# Altium schematic symbol library MCP2200-SOIC20.SchLib: 1 symbol
Pins are listed as number, name and electrical type; pins without a type are passive.

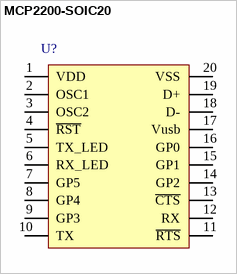
[diagram p0: symbol MCP2200-SOIC20]

## MCP2200-SOIC20
designator U?  (value not drawn)
pins: 1 VDD, 2 OSC1, 3 OSC2, 4 ~{RST}, 5 TX_LED, 6 RX_LED, 7 GP5, 8 GP4, 9 GP3, 10 TX, 11 ~{RTS}, 12 RX, 13 ~{CTS}, 14 GP2, 15 GP1, 16 GP0, 17 Vusb, 18 D-, 19 D+, 20 VSS